# Altium footprint library 晶振.PcbLib: 1 footprints
Each footprint in its own frame and in the unit in brackets; x right, y up, seen from the top. Pads: shape width x height; smd on the part's side, far side on the other; paste and mask are expansions set on the pad; w line width, h text height; cw(c..) or ccw(c..) is an arc to the next point about the centre after c.
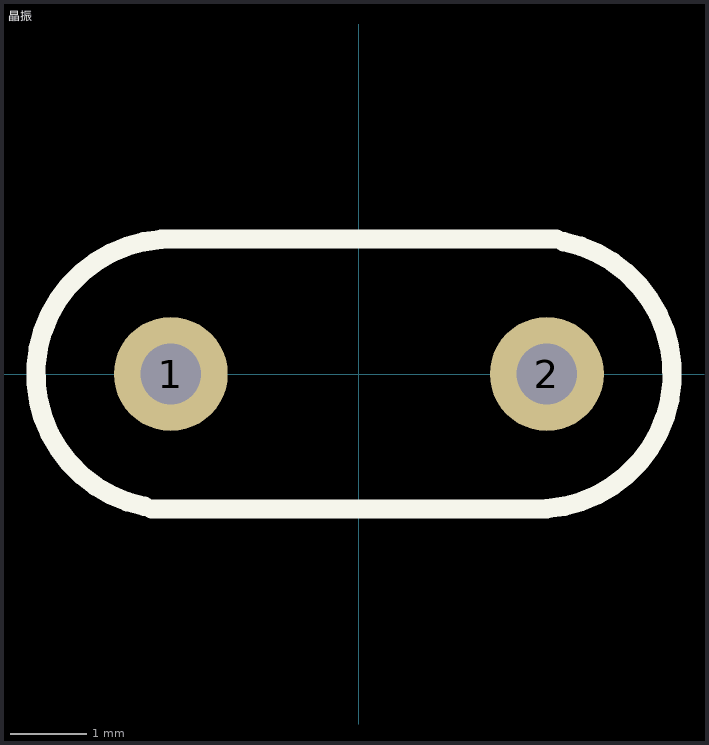
[diagram p0: the footprint, top view; thin cyan lines are the x and y axes]

## 晶振 [mm] "11.0592MHZ"
pads (2):
  round 1.5 hole 0.8 paste+0 mask+0.102: 1(-2.476,0) 2(2.476,0)
Top Overlay:
  lines w0.254: -2.825,-1.743 cw(c-2.476,0) -2.603,1.773 ; -2.73,-1.778 2.476,-1.778 ; -2.603,1.778 2.603,1.778 ; 2.476,-1.773 ccw(c2.349,0) 2.698,1.743